# Altium footprint library x-io.PcbLib: 21 footprints (part 2 of 2)
Each footprint in its own frame and in the unit in brackets; x right, y up, seen from the top. Pads: shape width x height; smd on the part's side, far side on the other; paste and mask are expansions set on the pad; w line width, h text height; cw(c..) or ccw(c..) is an arc to the next point about the centre after c.
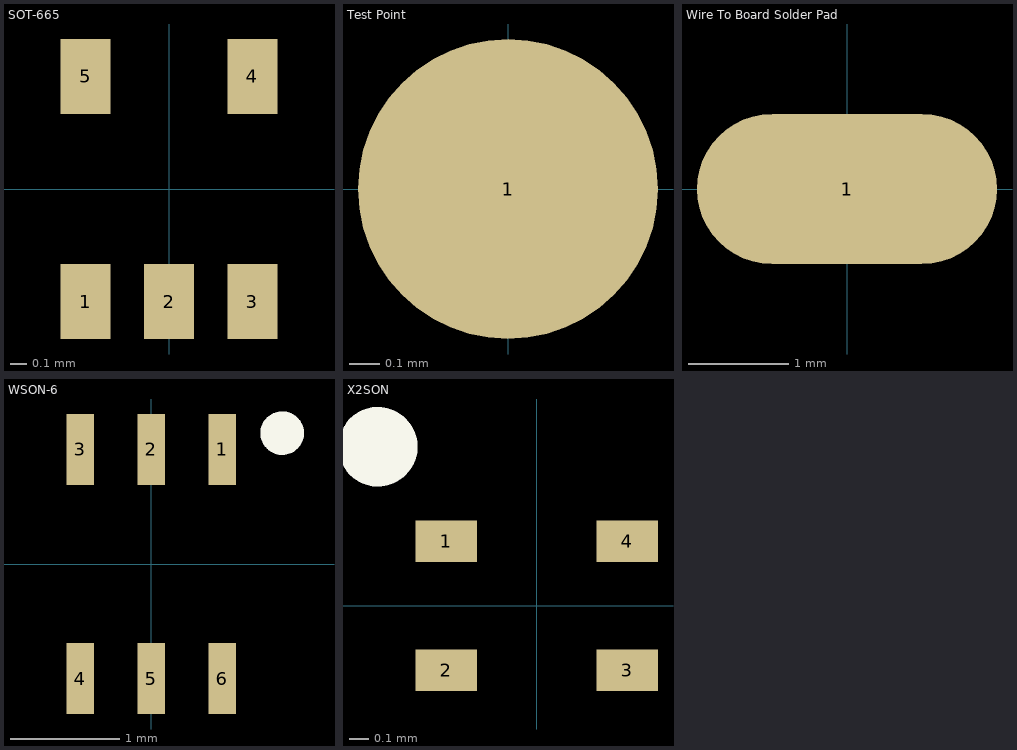
[diagram p1: the footprints below, top view; thin cyan lines are the x and y axes]

## SOT-665 [mm]
pads (5):
  rect 0.3x0.45 smd: 1(-0.5,-0.675) 2(0,-0.675) 3(0.5,-0.675) 4(0.5,0.675) 5(-0.5,0.675)
3D body: height 0.6, standoff 0, extent -0.795,-0.8 0.796,0.8

## Test Point [mm]
pads (1):
  round 1 smd paste-100: 1(0,0)

## Wire To Board Solder Pad [mm]
pads (1):
  oval 3x1.5 smd paste-100: 1(0,0)

## WSON-6 [mm]
pads (6):
  rect 0.25x0.65 smd: 1(0.65,1.05) 2(0,1.05) 3(-0.65,1.05) 4(-0.65,-1.05) 5(0,-1.05) 6(0.65,-1.05)
Top Overlay:
  circle w0.2: c1.2,1.2 r0.1
3D body: height 0.75, standoff 0, extent -1,-1 1,1

## X2SON [mm]
pads (4):
  rect 0.31x0.21 smd: 1(-0.455,0.325) 2(-0.455,-0.325) 3(0.455,-0.325) 4(0.455,0.325)
Top Overlay:
  circle w0.2: c-0.8,0.8 r0.1
3D body: height 0.4, standoff 0, extent -0.5,-0.5 0.5,0.5